# Altium footprint library DCDC.PcbLib: 13 footprints
Each footprint in its own frame and in the unit in brackets; x right, y up, seen from the top. Pads: shape width x height; smd on the part's side, far side on the other; paste and mask are expansions set on the pad; w line width, h text height; cw(c..) or ccw(c..) is an arc to the next point about the centre after c.
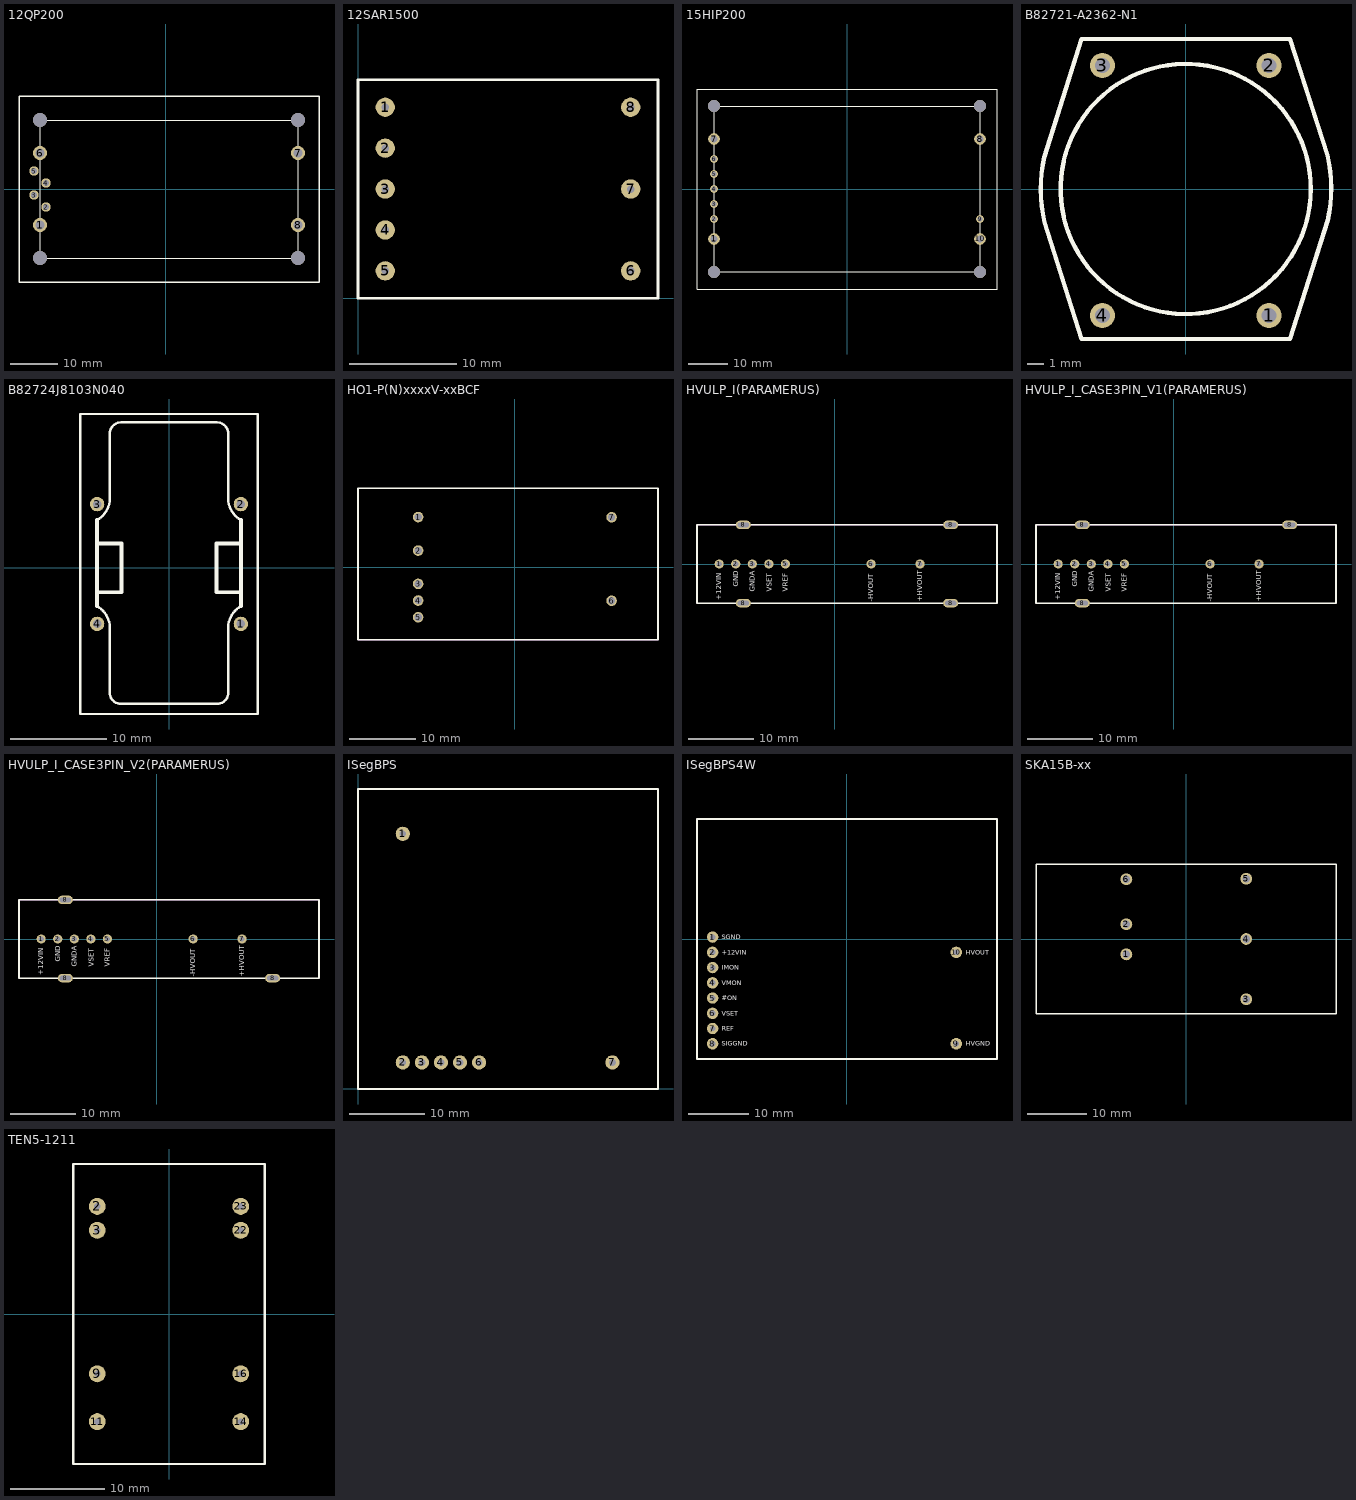
[diagram p0: the footprints below, top view; thin cyan lines are the x and y axes]

## 12QP200 [mm]
pads (8):
  round 3 hole 1.8: 1(-26.67,-7.62) 6(-26.67,7.62) 7(27.94,7.62) 8(27.94,-7.62)
  round 2 hole 1.2: 2(-25.4,-3.81) 3(-27.94,-1.27) 4(-25.4,1.27) 5(-27.94,3.81)
via -26.67,14.605 diameter 3 hole 3
via 27.94,14.605 diameter 3 hole 3
via 27.94,-14.605 diameter 3 hole 3
via -26.67,-14.605 diameter 3 hole 3
Top Overlay:
  lines w0.2: -26.67,-14.605 -26.67,14.605 27.94,14.605 27.94,-14.605 -26.67,-14.605
  lines w0.3: -31.115,-19.685 -31.115,19.685 32.385,19.685 32.385,-19.685 -31.115,-19.685

## 12SAR1500 [mm]
pads (8):
  round 1.8 hole 0.7: 1(2.54,17.78) 2(2.54,13.97) 3(2.54,10.16) 4(2.54,6.35) 5(2.54,2.54) 6(25.4,2.54) 7(25.4,10.16) 8(25.4,17.78)
Top Overlay:
  lines w0.254: 25.4,10.81 25.405,10.805 ; 27.94,0 0,0 0,20.33 27.94,20.33 27.945,20.325 27.945,0
3D body: height 10.8, standoff 0.2, extent 0,0 27.945,20.33

## 15HIP200 [mm]
pads (10):
  round 3 hole 1.8: 1(-33.782,-12.7) 7(-33.782,12.7) 8(33.782,12.7) 10(33.782,-12.7)
  round 2 hole 1.2: 2(-33.782,-7.62) 3(-33.782,-3.81) 4(-33.782,0) 5(-33.782,3.81) 6(-33.782,7.62) 9(33.782,-7.62)
via -33.782,-21.082 diameter 3 hole 3
via 33.782,-21.082 diameter 3 hole 3
via 33.782,21.082 diameter 3 hole 3
via -33.782,21.082 diameter 3 hole 3
Top Overlay:
  lines w0.1: -33.782,-21.082 33.782,-21.082 33.782,21.082 -33.782,21.082 -33.782,-21.082
  lines w0.3: -38.1,-25.4 -38.1,25.4 38.1,25.4 38.1,-25.4 -38.1,-25.4

## B82721-A2362-N1 [mm]
pads (4):
  round 1.5 hole 0.9: 1(5,-7.59) 2(5,7.41) 3(-5,7.41) 4(-5,-7.59)
Top Overlay:
  circle w0.254: c0,0 r7.506
  lines w0.254: -8.469,-1.993 cw(c0,0) -8.486,1.916 -6.25,9 6.25,9 8.504,2.027 cw(c0.035,0.034) 8.522,-1.882 6.25,-9 -6.25,-9 -8.469,-1.993 ; -8.469,-1.993 -8.469,-1.993

## B82724J8103N040 [mm]
pads (4):
  round 1.5 hole 0.9: 1(7.5,-5.84) 2(7.5,6.66) 3(-7.5,6.66) 4(-7.5,-5.84)
Top Overlay:
  lines w0.254: -7.5,-4 cw(c-8.75,-6.25) -6.181,-6.401 -6.176,-12.983 ccw(c-5,-13.015) -5,-14.19 5,-14.19 ccw(c5,-13.015) 6.176,-12.983 6.181,-6.401 cw(c8.75,-6.25) 7.5,-4 ; -7.5,5 ccw(c-8.75,7.25) -6.181,7.401 -6.176,13.983 cw(c-5,14.015) -5,15.19 ; -7.5,16.06 -9.25,16.06 ; 7.5,5 cw(c8.75,7.25) 6.181,7.401 6.176,13.983 ccw(c5,14.015) 5,15.19 -5,15.19 ; -9.25,16.06 -9.25,-15.24 9.25,-15.24 9.25,16.06 -9.25,16.06 ; -5,15.19 -5,15.19
  lines w0.4: -7.5,-4 -7.5,5 ; -7.495,-2.54 -4.955,-2.54 -4.955,2.54 -7.495,2.54 ; 7.495,-2.54 4.955,-2.54 4.955,2.54 7.495,2.54 ; 7.5,-4 7.5,5

## HO1-P(N)xxxxV-xxBCF [mm]
pads (7):
  round 1.6 hole 1.1: 1(-14.67,7.6) 2(-14.67,2.52) 3(-14.67,-2.54) 4(-14.67,-5.06) 5(-14.67,-7.6) 6(14.67,-5.1) 7(14.67,7.58)
Top Overlay:
  lines w0.254: -23.79,-11.021 -23.79,11.979 21.71,11.98 21.71,-11.02 -23.79,-11.021
Mechanical 1:
  lines w0.1: -23.79,-11.021 -23.79,11.979 -22.59,11.979 21.71,11.979 21.71,-11.021 -23.79,-11.021
3D body: height 12.5, standoff 0.5, extent -23.789,-11.02 21.71,11.979

## HVULP_I(PARAMERUS) [mm]
pads (11):
  round 1.4 hole 0.8: 1(-17.75,0) 2(-15.21,0) 3(-12.67,0) 4(-10.13,0) 5(-7.59,0) 6(5.55,0) 7(13.05,0)
  oval 2.3x1.3 hole 0.7 slot 1.7 at 0 deg: 8(-14.05,6) 8(-14.05,-6) 8(17.75,6) 8(17.75,-6)
Top Overlay:
  lines w0.254: -21.15,6 -21.15,-6 24.85,-6 24.85,6 ; -21.15,6 24.85,6
  text "-HVOUT" at 5.9,-5.75 h0.8
  text "GND" at -14.8,-3.45 h0.8
  text "VREF" at -7.2,-4.25 h0.8
  text "VSET" at -9.7,-4.25 h0.8
  text "+12VIN" at -17.4,-5.55 h0.8
  text "GNDA" at -12.3,-4.25 h0.8
  text "+HVOUT" at 13.4,-5.75 h0.8
Mechanical 1:
  lines w0.1: -21.15,-6 24.85,-6 ; -21.15,-6 -21.15,6 ; -21.15,6 24.85,6 ; 24.851,-6 24.851,6
3D body: height 24, standoff 1, extent -21.15,-6 24.85,6

## HVULP_I_CASE3PIN_V1(PARAMERUS) [mm]
pads (10):
  round 1.4 hole 0.8: 1(-17.75,0) 2(-15.21,0) 3(-12.67,0) 4(-10.13,0) 5(-7.59,0) 6(5.55,0) 7(13.05,0)
  oval 2.3x1.3 hole 0.7 slot 1.7 at 0 deg: 8(-14.05,6) 8(-14.05,-6) 8(17.75,6)
Top Overlay:
  lines w0.254: -21.15,6 -21.15,-6 24.85,-6 24.85,6 ; -21.15,6 24.85,6
  text "-HVOUT" at 5.9,-5.75 h0.8
  text "GND" at -14.8,-3.45 h0.8
  text "VREF" at -7.2,-4.25 h0.8
  text "VSET" at -9.7,-4.25 h0.8
  text "+12VIN" at -17.4,-5.55 h0.8
  text "GNDA" at -12.3,-4.25 h0.8
  text "+HVOUT" at 13.4,-5.75 h0.8
Mechanical 1:
  lines w0.1: -21.15,-6 24.85,-6 ; -21.15,-6 -21.15,6 ; -21.15,6 24.85,6 ; 24.851,-6 24.851,6
3D body: height 24, standoff 1, extent -21.15,-6 24.85,6

## HVULP_I_CASE3PIN_V2(PARAMERUS) [mm]
pads (10):
  round 1.4 hole 0.8: 1(-17.75,0) 2(-15.21,0) 3(-12.67,0) 4(-10.13,0) 5(-7.59,0) 6(5.55,0) 7(13.05,0)
  oval 2.3x1.3 hole 0.7 slot 1.7 at 0 deg: 8(-14.05,6) 8(-14.05,-6) 8(17.75,-6)
Top Overlay:
  lines w0.254: -21.15,6 -21.15,-6 24.85,-6 24.85,6 ; -21.15,6 24.85,6
  text "-HVOUT" at 5.9,-5.75 h0.8
  text "GND" at -14.8,-3.45 h0.8
  text "VREF" at -7.2,-4.25 h0.8
  text "VSET" at -9.7,-4.25 h0.8
  text "+12VIN" at -17.4,-5.55 h0.8
  text "GNDA" at -12.3,-4.25 h0.8
  text "+HVOUT" at 13.4,-5.75 h0.8
Mechanical 1:
  lines w0.1: -21.15,-6 24.85,-6 ; -21.15,-6 -21.15,6 ; -21.15,6 24.85,6 ; 24.851,-6 24.851,6
3D body: height 24, standoff 1, extent -21.15,-6 24.85,6

## ISegBPS [mm]
pads (7):
  round 1.9 hole 0.9: 1(5.98,34.02) 2(5.98,3.54) 3(8.52,3.54) 4(11.06,3.54) 5(13.6,3.54) 6(16.14,3.54) 7(33.92,3.54)
Top Overlay:
  lines w0.254: 0,0 0,40 40,40 40,0 0,0
Mechanical 1:
  lines w0.1: 0,0 0,40 40,40 40,0 0,0
3D body: height 18, standoff 1, extent 0.001,0.001 39.999,39.999

## ISegBPS4W [mm]
pads (10):
  round 1.9 hole 0.9: 1(-22.4,0.32) 2(-22.4,-2.22) 3(-22.4,-4.76) 4(-22.4,-7.3) 5(-22.4,-9.84) 6(-22.4,-12.38) 7(-22.4,-14.92) 8(-22.4,-17.46) 9(18.21,-17.46) 10(18.21,-2.22)
Top Overlay:
  lines w0.254: -25,-20 25,-20 25,20 -25,20 -25,-20
  text "SGND" at -20.85,-0.05 h0.8
  text "+12VIN" at -20.85,-2.59 h0.8
  text "IMON" at -20.85,-5.13 h0.8
  text "VMON" at -20.85,-7.67 h0.8
  text "#ON" at -20.85,-10.21 h0.8
  text "VSET" at -20.85,-12.75 h0.8
  text "REF" at -20.85,-15.29 h0.8
  text "SIGGND" at -20.85,-17.83 h0.8
  text "HVGND" at 19.76,-17.83 h0.8
  text "HVOUT" at 19.76,-2.59 h0.8
Mechanical 1:
  lines w0.1: -25,-20 25,-20 25,20 -25,20 -25,-19.999
3D body: height 18, standoff 1, extent -25,-19.999 25,19.999

## SKA15B-xx [mm]
pads (6):
  round 2 hole 1.3: 1(-10.1,-2.6) 2(-10.1,2.5) 3(10.2,-10.2) 4(10.2,0) 5(10.2,10.2) 6(-10.1,10.12)
Top Overlay:
  lines w0.254: -25.4,-12.7 25.4,-12.7 25.4,12.7 -25.4,12.7 -25.4,-12.7

## TEN5-1211 [mm]
pads (8):
  round 1.8 hole 0.7: 2(-7.62,11.43) 3(-7.62,8.89) 9(-7.62,-6.35) 11(-7.62,-11.43) 14(7.62,-11.43) 16(7.62,-6.35) 22(7.62,8.89) 23(7.62,11.43)
Top Overlay:
  lines w0.254: -10.16,-15.93 -10.16,-13.97 -10.16,13.97 -10.16,15.93 -7.62,15.93 7.62,15.93 10.16,15.93 10.16,13.97 10.16,-13.97 10.16,-15.93 7.62,-15.93 -7.62,-15.93 -10.16,-15.93
3D body: height 10.2, standoff 0.2, extent -10.287,-16.057 10.287,16.057